# Altium schematic symbol library Batt_Renata_SMTU2032-LF_eec.SchLib: 1 symbol
Pins are listed as number, name and electrical type; pins without a type are passive.

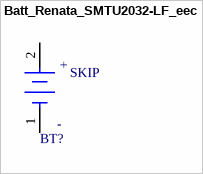
[diagram p0: symbol Batt_Renata_SMTU2032-LF_eec]

## Batt_Renata_SMTU2032-LF_eec
designator BT?  Voltage: SKIP
Part Number: SMTU2032-LF; Manufacturer: Renata; Category 9F01520Baf6644C6: Accessories; Category 9D425048Acdb4685: Batteries and Accessories; Category 9A1E5714Ab8941D9: Power Products; Category 53E89Ee26389882F: Uncategorized; Num Pins: 2; helpURL: https://upverter.com/upn/revision/51a04c9c7d84daa2/; ComponentLink2Description: Datasheet; Temperature: -40°C to +100°C; Package: HOLDER_SMT_28MM5_20MM0_BAT; Supplier 2: Mouser; Supplier 1: Digi-Key; ComponentLink1URL: https://upverter.com/upn/revision/51a04c9c7d84daa2/; Supplier Part Number 2: 614-SMTU2032-LF; ComponentLink1Description: Upverter; ComponentLink2URL: http://www.renata.com/fileadmin/downloads/productsheets/battery_holders/SMTU2032-LF.pdf; RoHS: TRUE; Mouser Part Number: 614-SMTU2032-LF; Temperature Range High: +100°C; Temperature Range Low: -40°C; Lead Free: yes; Mounting Type: surface mount; Octopart Part Number: f4883d8e89b42b4f
footprint Renata_SMTU2032-LF_0
pins: 1 C, 2 A
text: +; -